# EAGLE library part EM1000 (library tibbo)
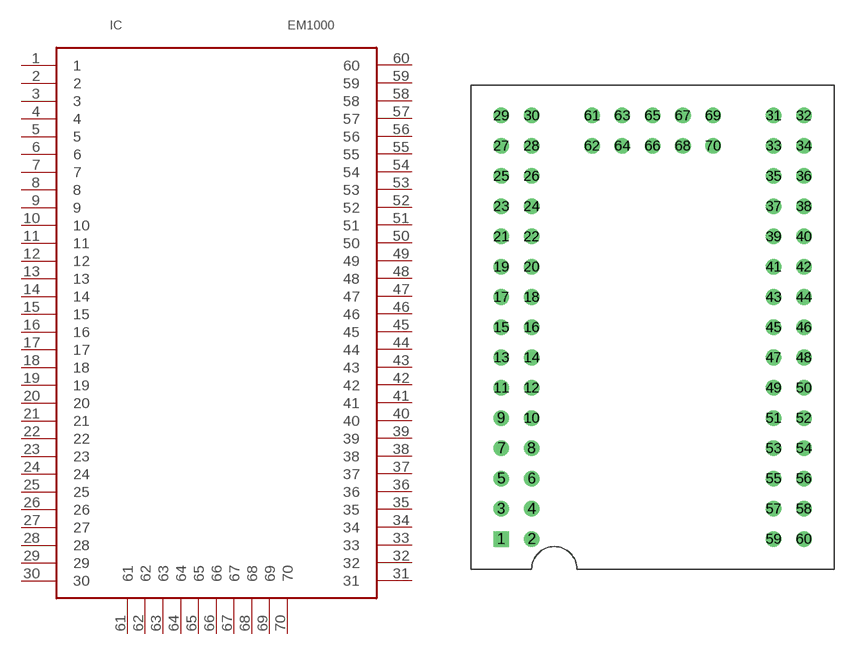
[diagram p0: symbol with the pads of TIBBO72; footprint TIBBO72]

Designator prefix IC

## EM1000  [TIBBO72]
1  1  nc
2  2  nc
3  3  nc
4  4  nc
5  5  nc
6  6  nc
7  7  nc
8  8  nc
9  9  nc
10  10  nc
11  11  nc
12  12  nc
13  13  nc
14  14  nc
15  15  nc
16  16  nc
17  17  nc
18  18  nc
19  19  nc
20  20  nc
21  21  nc
22  22  nc
23  23  nc
24  24  nc
25  25  nc
26  26  nc
27  27  nc
28  28  nc
29  29  nc
30  30  nc
31  31  nc
32  32  nc
33  33  nc
34  34  nc
35  35  nc
36  36  nc
37  37  nc
38  38  nc
39  39  nc
40  40  nc
41  41  nc
42  42  nc
43  43  nc
44  44  nc
45  45  nc
46  46  nc
47  47  nc
48  48  nc
49  49  nc
50  50  nc
51  51  nc
52  52  nc
53  53  nc
54  54  nc
55  55  nc
56  56  nc
57  57  nc
58  58  nc
59  59  nc
60  60  nc
61  61  nc
62  62  nc
63  63  nc
64  64  nc
65  65  nc
66  66  nc
67  67  nc
68  68  nc
69  69  nc
70  70  nc

## Footprint TIBBO72 (pad centres in mm)
EM1000
drill 0.8 pad 1.27 square: 1 -27.94,-22.86
drill 0.8 pad 1.27 round: 2 -25.4,-22.86; 3 -27.94,-20.32; 4 -25.4,-20.32; 5 -27.94,-17.78; 6 -25.4,-17.78; 7 -27.94,-15.24; 8 -25.4,-15.24; 9 -27.94,-12.7; 10 -25.4,-12.7; 11 -27.94,-10.16; 12 -25.4,-10.16; 13 -27.94,-7.62; 14 -25.4,-7.62; 15 -27.94,-5.08; 16 -25.4,-5.08; 17 -27.94,-2.54; 18 -25.4,-2.54; 19 -27.94,0; 20 -25.4,0; 21 -27.94,2.54; 22 -25.4,2.54; 23 -27.94,5.08; 24 -25.4,5.08; 25 -27.94,7.62; 26 -25.4,7.62; 27 -27.94,10.16; 28 -25.4,10.16; 29 -27.94,12.7; 30 -25.4,12.7; 31 -5.08,12.7; 32 -2.54,12.7; 33 -5.08,10.16; 34 -2.54,10.16; 35 -5.08,7.62; 36 -2.54,7.62; 37 -5.08,5.08; 38 -2.54,5.08; 39 -5.08,2.54; 40 -2.54,2.54; 41 -5.08,0; 42 -2.54,0; 43 -5.08,-2.54; 44 -2.54,-2.54; 45 -5.08,-5.08; 46 -2.54,-5.08; 47 -5.08,-7.62; 48 -2.54,-7.62; 49 -5.08,-10.16; 50 -2.54,-10.16; 51 -5.08,-12.7; 52 -2.54,-12.7; 53 -5.08,-15.24; 54 -2.54,-15.24; 55 -5.08,-17.78; 56 -2.54,-17.78; 57 -5.08,-20.32; 58 -2.54,-20.32; 59 -5.08,-22.86; 60 -2.54,-22.86; 61 -20.32,12.7; 62 -20.32,10.16; 63 -17.78,12.7; 64 -17.78,10.16; 65 -15.24,12.7; 66 -15.24,10.16; 67 -12.7,12.7; 68 -12.7,10.16; 69 -10.16,12.7; 70 -10.16,10.16